# Altium footprint library SamacSys.PcbLib: 27 footprints (part 2 of 2)
Each footprint in its own frame and in the unit in brackets; x right, y up, seen from the top. Pads: shape width x height; smd on the part's side, far side on the other; paste and mask are expansions set on the pad; w line width, h text height; cw(c..) or ccw(c..) is an arc to the next point about the centre after c.
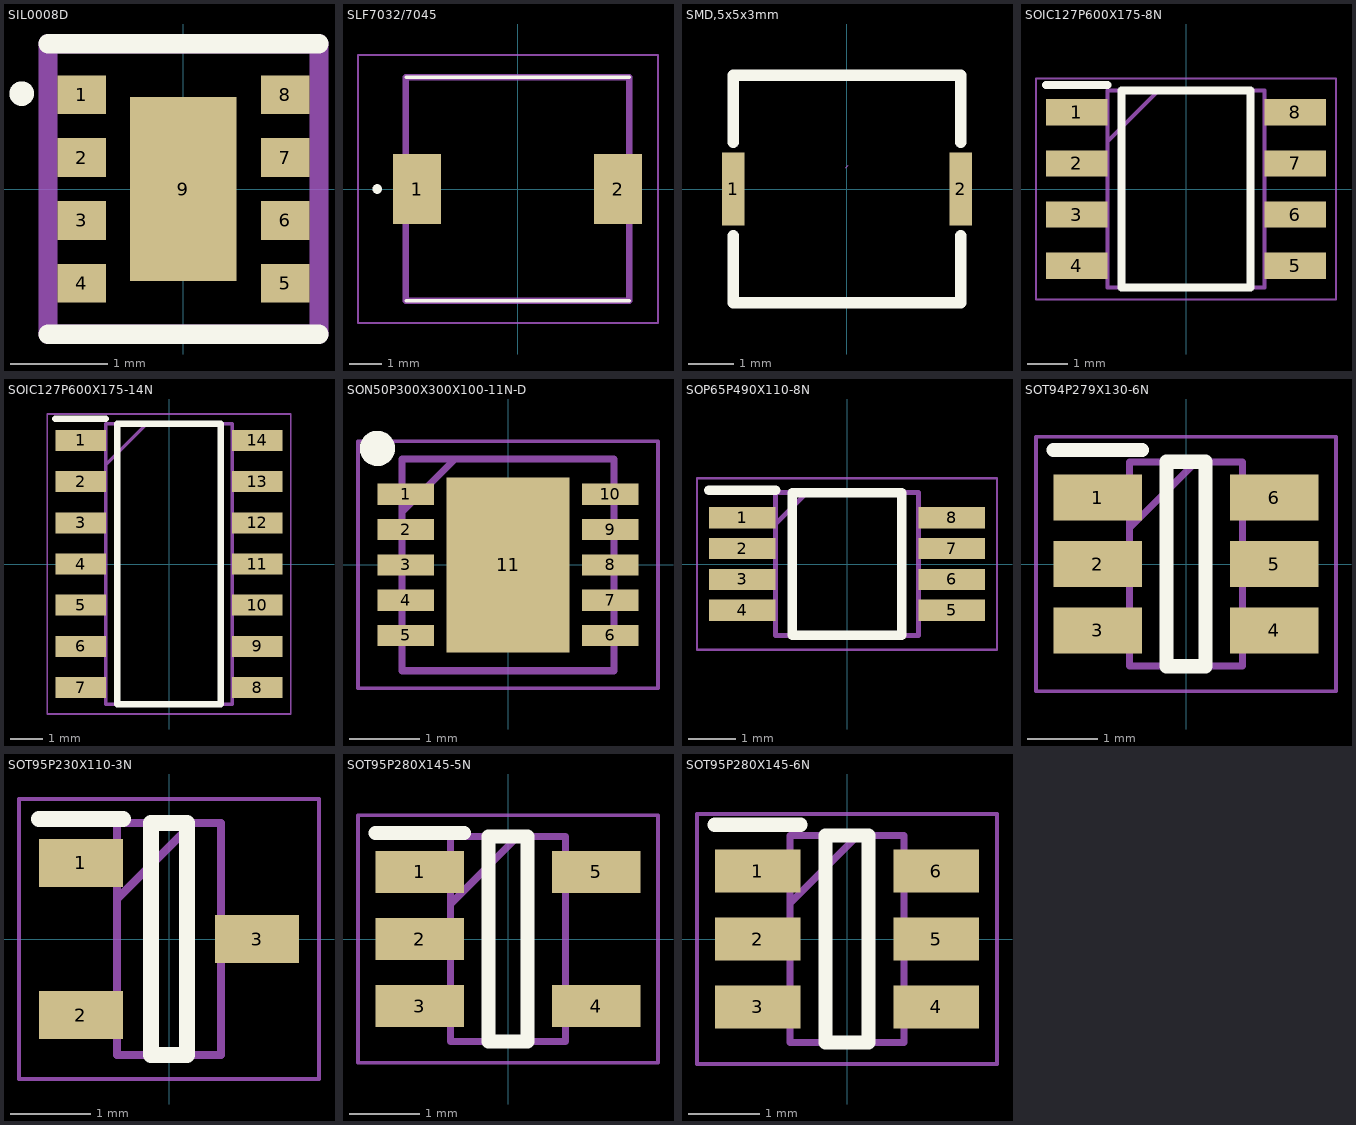
[diagram p1: the footprints below, top view; thin cyan lines are the x and y axes]

## SIL0008D [mm]
pads (9):
  rect 0.5x0.4 smd: 1(-1.05,0.975) 2(-1.05,0.325) 3(-1.05,-0.325) 4(-1.05,-0.975) 5(1.05,-0.975) 6(1.05,-0.325) 7(1.05,0.325) 8(1.05,0.975)
  rect 1.1x1.9 smd: 9(0,0)
Top Overlay:
  circle w0.2: c-1.672,0.986 r0.027
  lines w0.2: -1.4,-1.5 1.4,-1.5 ; -1.4,1.5 1.4,1.5
Mechanical 13:
  lines w0.2: -1.4,-1.5 -1.4,1.5 1.4,1.5 1.4,-1.5 -1.4,-1.5
3D body "TPS82130SILR.stp": height 1.31, standoff 0, extent -1.4,-1.5 1.4,1.5

## SLF7032/7045 [mm]
pads (2):
  rect 1.5x2.2 smd: 1(-3.15,0) 2(3.15,0)
Top Overlay:
  circle w0.2: c-4.4,0 r0.05
  lines w0.1: -3.5,-3.5 3.5,-3.5 ; -3.5,3.5 3.5,3.5
Mechanical 13:
  lines w0.2: -3.5,-3.5 -3.5,3.5 3.5,3.5 3.5,-3.5 -3.5,-3.5
Mechanical 15:
  lines w0.05: -5,-4.2 -5,4.2 4.4,4.2 4.4,-4.2 -5,-4.2

## SMD,5x5x3mm [mm]
height 3
pads (2):
  rect 0.5x1.6 smd: 1(-2.5,0) 2(2.5,0)
Top Overlay:
  lines w0.254: -2.5,-1.031 -2.5,-2.5 2.5,-2.5 2.5,-1.031 ; -2.5,1.031 -2.5,2.5 2.5,2.5 2.5,1.031
Mechanical 15:
  lines w0.003: -0.025,0.471 0.025,0.522

## SOIC127P600X175-8N [mm]
pads (8):
  rect 1.525x0.65 smd: 1(-2.712,1.905) 2(-2.712,0.635) 3(-2.712,-0.635) 4(-2.712,-1.905) 5(2.712,-1.905) 6(2.712,-0.635) 7(2.712,0.635) 8(2.712,1.905)
Top Overlay:
  lines w0.2: -3.475,2.58 -1.95,2.58 ; -1.6,-2.45 -1.6,2.45 1.6,2.45 1.6,-2.45 -1.6,-2.45
Mechanical 13:
  lines w0.1: -1.95,1.18 -0.68,2.45 ; -1.95,-2.45 -1.95,2.45 1.95,2.45 1.95,-2.45 -1.95,-2.45
Mechanical 15:
  lines w0.05: -3.725,-2.75 -3.725,2.75 3.725,2.75 3.725,-2.75 -3.725,-2.75
3D body "NE555DR.stp": height 1.75, standoff 0, extent -3,-2.45 3,2.45

## SOIC127P600X175-14N [mm]
pads (14):
  rect 1.55x0.65 smd: 1(-2.725,3.81) 2(-2.725,2.54) 3(-2.725,1.27) 4(-2.725,0) 5(-2.725,-1.27) 6(-2.725,-2.54) 7(-2.725,-3.81) 8(2.725,-3.81) 9(2.725,-2.54) 10(2.725,-1.27) 11(2.725,0) 12(2.725,1.27) 13(2.725,2.54) 14(2.725,3.81)
Top Overlay:
  lines w0.2: -3.5,4.485 -1.95,4.485 ; -1.6,-4.325 1.6,-4.325 1.6,4.325 -1.6,4.325 -1.6,-4.325
Mechanical 13:
  lines w0.1: -1.95,3.055 -0.68,4.325 ; -1.95,-4.325 1.95,-4.325 1.95,4.325 -1.95,4.325 -1.95,-4.325
Mechanical 15:
  lines w0.05: -3.75,-4.625 3.75,-4.625 3.75,4.625 -3.75,4.625 -3.75,-4.625
3D body "MC14082BDR2G.stp": height 1.75, standoff 0, extent -3,-4.325 3,4.325

## SON50P300X300X100-11N-D [mm]
pads (11):
  rect 0.8x0.3 smd: 1(-1.45,1) 2(-1.45,0.5) 3(-1.45,0) 4(-1.45,-0.5) 5(-1.45,-1) 6(1.45,-1) 7(1.45,-0.5) 8(1.45,0) 9(1.45,0.5) 10(1.45,1)
  rect 1.74x2.48 smd: 11(0,0)
Top Overlay:
  circle w0.25: c-1.85,1.65 r0.125
Mechanical 13:
  lines w0.1: -1.5,0.75 -0.75,1.5 ; -1.5,-1.5 -1.5,1.5 1.5,1.5 1.5,-1.5 -1.5,-1.5
Mechanical 15:
  lines w0.05: -2.125,-1.75 -2.125,1.75 2.125,1.75 2.125,-1.75 -2.125,-1.75
3D body "SIP32419DN-T1-GE4.stp": height 1, standoff 0, extent -1.55,-1.5 1.55,1.5

## SOP65P490X110-8N [mm]
pads (8):
  rect 1.4x0.45 smd: 1(-2.2,0.975) 2(-2.2,0.325) 3(-2.2,-0.325) 4(-2.2,-0.975) 5(2.2,-0.975) 6(2.2,-0.325) 7(2.2,0.325) 8(2.2,0.975)
Top Overlay:
  lines w0.2: -2.9,1.55 -1.5,1.55 ; -1.15,-1.5 -1.15,1.5 1.15,1.5 1.15,-1.5 -1.15,-1.5
Mechanical 13:
  lines w0.1: -1.5,0.85 -0.85,1.5 ; -1.5,-1.5 -1.5,1.5 1.5,1.5 1.5,-1.5 -1.5,-1.5
Mechanical 15:
  lines w0.05: -3.15,-1.8 -3.15,1.8 3.15,1.8 3.15,-1.8 -3.15,-1.8
3D body "TLV1702AIDGKR.stp": height 1.1, standoff 0, extent -2.45,-1.5 2.45,1.5

## SOT94P279X130-6N [mm]
pads (6):
  rect 1.25x0.65 smd: 1(-1.25,0.94) 2(-1.25,0) 3(-1.25,-0.94) 4(1.25,-0.94) 5(1.25,0) 6(1.25,0.94)
Top Overlay:
  lines w0.2: -1.875,1.614 -0.625,1.614 ; -0.275,-1.448 -0.275,1.448 0.275,1.448 0.275,-1.448 -0.275,-1.448
Mechanical 13:
  lines w0.1: -0.8,0.508 0.14,1.448 ; -0.8,-1.448 -0.8,1.448 0.8,1.448 0.8,-1.448 -0.8,-1.448
Mechanical 15:
  lines w0.05: -2.125,-1.8 -2.125,1.8 2.125,1.8 2.125,-1.8 -2.125,-1.8
3D body "RT8259GJ6_Z00_.stp": height 1.3, standoff 0, extent -1.397,-1.448 1.397,1.448

## SOT95P230X110-3N [mm]
pads (3):
  rect 1.05x0.6 smd: 1(-1.1,0.95) 2(-1.1,-0.95) 3(1.1,0)
Top Overlay:
  lines w0.2: -1.625,1.5 -0.575,1.5 ; -0.225,-1.45 -0.225,1.45 0.225,1.45 0.225,-1.45 -0.225,-1.45
Mechanical 13:
  lines w0.1: -0.65,0.5 0.3,1.45 ; -0.65,-1.45 -0.65,1.45 0.65,1.45 0.65,-1.45 -0.65,-1.45
Mechanical 15:
  lines w0.05: -1.875,-1.75 -1.875,1.75 1.875,1.75 1.875,-1.75 -1.875,-1.75
3D body "BC847,215.stp": height 1.1, standoff 0, extent -1.15,-1.45 1.15,1.45

## SOT95P280X145-5N [mm]
pads (5):
  rect 1.25x0.6 smd: 1(-1.25,0.95) 2(-1.25,0) 3(-1.25,-0.95) 4(1.25,-0.95) 5(1.25,0.95)
Top Overlay:
  lines w0.2: -1.875,1.5 -0.625,1.5 ; -0.275,-1.45 -0.275,1.45 0.275,1.45 0.275,-1.45 -0.275,-1.45
Mechanical 13:
  lines w0.1: -0.812,0.5 0.138,1.45 ; -0.812,-1.45 -0.812,1.45 0.812,1.45 0.812,-1.45 -0.812,-1.45
Mechanical 15:
  lines w0.05: -2.125,-1.75 -2.125,1.75 2.125,1.75 2.125,-1.75 -2.125,-1.75
3D body "MAX4480AUK+T.stp": height 1.45, standoff 0, extent -1.4,-1.45 1.4,1.45

## SOT95P280X145-6N [mm]
pads (6):
  rect 1.2x0.6 smd: 1(-1.25,0.95) 2(-1.25,0) 3(-1.25,-0.95) 4(1.25,-0.95) 5(1.25,0) 6(1.25,0.95)
Top Overlay:
  lines w0.2: -1.85,1.6 -0.65,1.6 ; -0.3,-1.45 0.3,-1.45 0.3,1.45 -0.3,1.45 -0.3,-1.45
Mechanical 13:
  lines w0.1: -0.8,0.5 0.15,1.45 ; -0.8,-1.45 0.8,-1.45 0.8,1.45 -0.8,1.45 -0.8,-1.45
Mechanical 15:
  lines w0.05: -2.1,-1.75 2.1,-1.75 2.1,1.75 -2.1,1.75 -2.1,-1.75
3D body "MT1470.stp": height 1.45, standoff 0, extent -1.4,-1.45 1.4,1.45